# Altium schematic symbol library SCH - FUSE - Littelfuse_PTC_1812.SCHLIB: 1 symbol
Pins are listed as number, name and electrical type; pins without a type are passive.

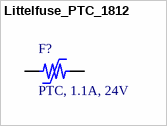
[diagram p0: symbol Littelfuse_PTC_1812]

## Littelfuse_PTC_1812
designator F?, comment PTC, 1.1A, 24V
Resettable PTC Polyfuse SMD, 1812, automotive; MPN: miniASMDC110F/24; MF: Littelfuse; Trip Current: 2.2A; Resistance: 0.18Ohm; Created: 2019_02_10_AGeiger; Package: 1812; ComponentLink1URL: https://www.littelfuse.com/~/media/electronics/datasheets/resettable_ptcs/littelfuse_ptc_surface_mount_catalog_datasheet.pdf.pdf; ComponentLink1Description: Datasheet; Value: PTC, 1.1A, 24V; Voltage: 24V; Hold Current: 1.1A
footprint 1812_PTC_Polyfuse_Littelfuse (Chip Fuse, 2-Leads, Body 4.6x3.24mm)
pins: 1, 2